# Altium footprint library D2Pak.PcbLib: 1 footprints
Each footprint in its own frame and in the unit in brackets; x right, y up, seen from the top. Pads: shape width x height; smd on the part's side, far side on the other; paste and mask are expansions set on the pad; w line width, h text height; cw(c..) or ccw(c..) is an arc to the next point about the centre after c.
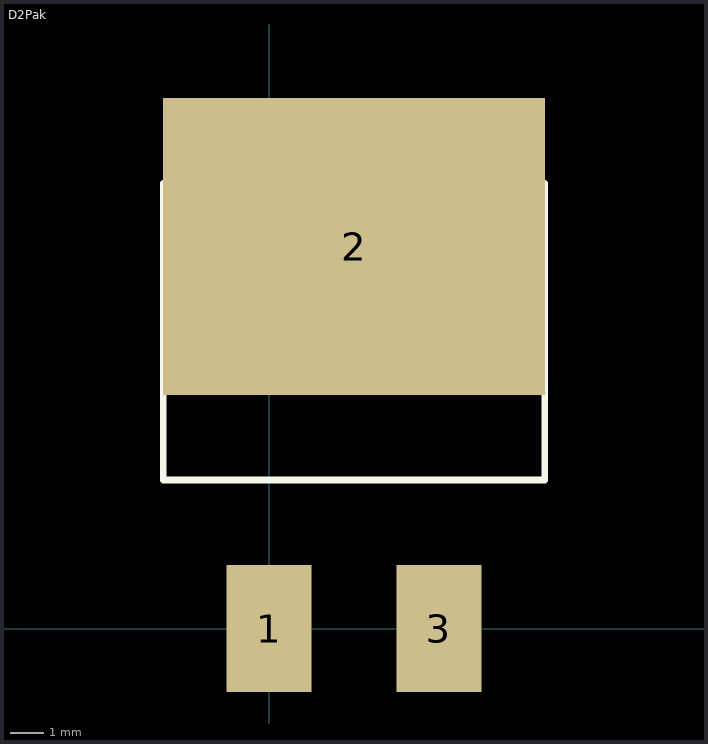
[diagram p0: the footprint, top view; thin cyan lines are the x and y axes]

## D2Pak [mil]
height 5905.51
pads (3):
  rect 100x150 smd: 1(0,0) 3(200,0)
  rect 450x350 smd: 2(100,450)
Top Overlay:
  lines w7.87: -125,175 325,175 325,525 -125,525 -125,175